# EAGLE library part SMSC-LAN9221 (library duraTerm)
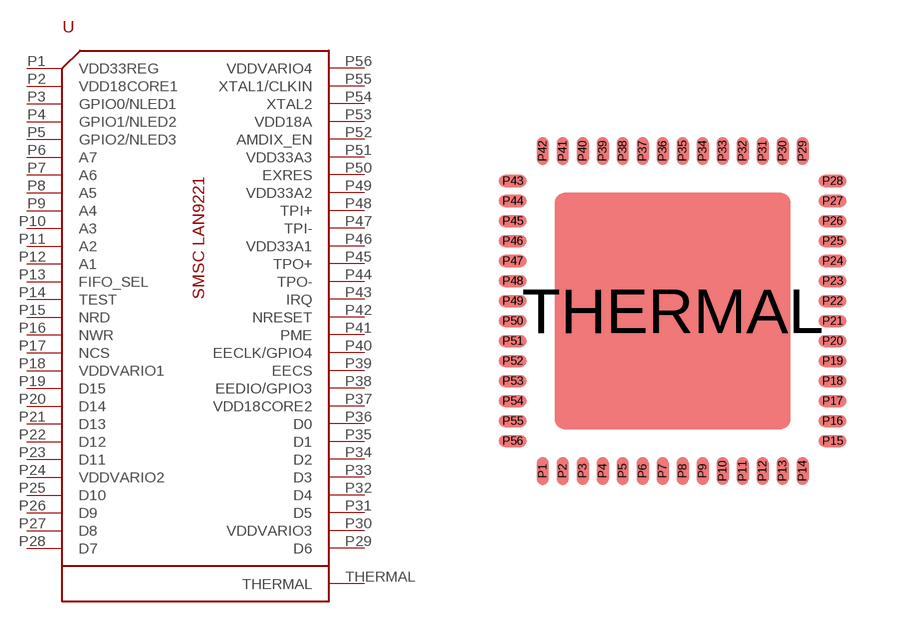
[diagram p8: symbol with the pads of SMSC-TQFP-56; footprint SMSC-TQFP-56]

Designator prefix U

## SMSC-LAN9221  [SMSC-TQFP-56]
P1  VDD33REG
P2  VDD18CORE1
P3  GPIO0/NLED1
P4  GPIO1/NLED2
P5  GPIO2/NLED3
P6  A7
P7  A6
P8  A5
P9  A4
P10  A3
P11  A2
P12  A1
P13  FIFO_SEL
P14  TEST
P15  NRD
P16  NWR
P17  NCS
P18  VDDVARIO1
P19  D15
P20  D14
P21  D13
P22  D12
P23  D11
P24  VDDVARIO2
P25  D10
P26  D9
P27  D8
P28  D7
P29  D6
P30  VDDVARIO3
P31  D5
P32  D4
P33  D3
P34  D2
P35  D1
P36  D0
P37  VDD18CORE2
P38  EEDIO/GPIO3
P39  EECS
P40  EECLK/GPIO4
P41  PME
P42  NRESET
P43  IRQ
P44  TPO-
P45  TPO+
P46  VDD33A1
P47  TPI-
P48  TPI+
P49  VDD33A2
P50  EXRES
P51  VDD33A3
P52  AMDIX_EN
P53  VDD18A
P54  XTAL2
P55  XTAL1/CLKIN
P56  VDDVARIO4
THERMAL  THERMAL

## Footprint SMSC-TQFP-56 (pad centres in mm)
smd 0.3 x 0.7: P1 -3.25,-4; P2 -2.75,-4; P3 -2.25,-4; P4 -1.75,-4; P5 -1.25,-4; P6 -0.75,-4; P7 -0.25,-4; P8 0.25,-4; P9 0.75,-4; P10 1.25,-4; P11 1.75,-4; P12 2.25,-4; P13 2.75,-4; P14 3.25,-4; P29 3.25,4; P30 2.75,4; P31 2.25,4; P32 1.75,4; P33 1.25,4; P34 0.75,4; P35 0.25,4; P36 -0.25,4; P37 -0.75,4; P38 -1.25,4; P39 -1.75,4; P40 -2.25,4; P41 -2.75,4; P42 -3.25,4
smd 0.7 x 0.3: P15 4,-3.25; P16 4,-2.75; P17 4,-2.25; P18 4,-1.75; P19 4,-1.25; P20 4,-0.75; P21 4,-0.25; P22 4,0.25; P23 4,0.75; P24 4,1.25; P25 4,1.75; P26 4,2.25; P27 4,2.75; P28 4,3.25; P43 -4,3.25; P44 -4,2.75; P45 -4,2.25; P46 -4,1.75; P47 -4,1.25; P48 -4,0.75; P49 -4,0.25; P50 -4,-0.25; P51 -4,-0.75; P52 -4,-1.25; P53 -4,-1.75; P54 -4,-2.25; P55 -4,-2.75; P56 -4,-3.25
smd 5.9 x 5.9: THERMAL 0,0